# Altium footprint library Wifi.PcbLib: 1 footprints
Each footprint in its own frame and in the unit in brackets; x right, y up, seen from the top. Pads: shape width x height; smd on the part's side, far side on the other; paste and mask are expansions set on the pad; w line width, h text height; cw(c..) or ccw(c..) is an arc to the next point about the centre after c.
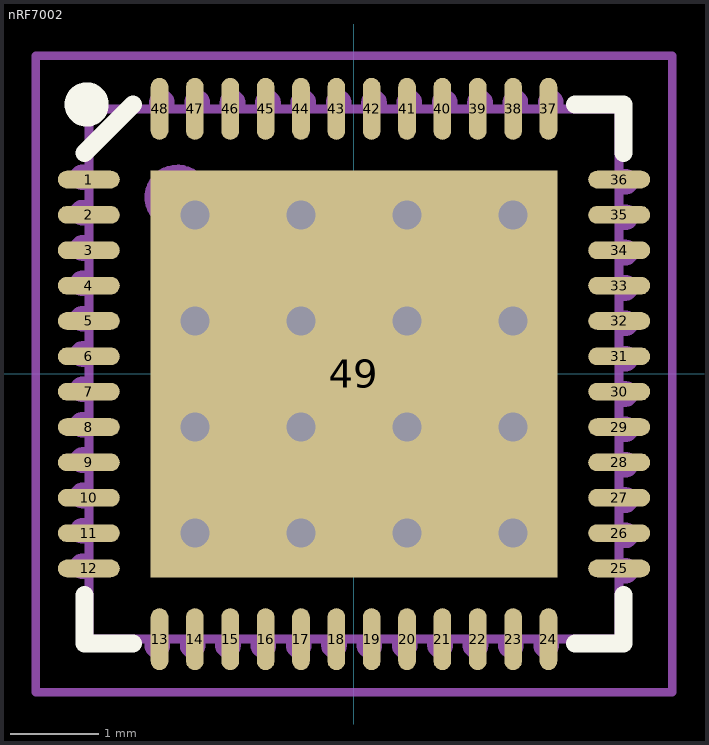
[diagram p0: the footprint, top view; thin cyan lines are the x and y axes]

## nRF7002 [mm] "QFN40P600X600X60-48N"
pads (49):
  oval 0.7x0.2 smd: 1(-3,2.2) 2(-3,1.8) 3(-3,1.4) 4(-3,1) 5(-3,0.6) 6(-3,0.2) 7(-3,-0.2) 8(-3,-0.6) 9(-3,-1) 10(-3,-1.4) 11(-3,-1.8) 12(-3,-2.2) 25(3,-2.2) 26(3,-1.8) 27(3,-1.4) 28(3,-1) 29(3,-0.6) 30(3,-0.2) 31(3,0.2) 32(3,0.6) 33(3,1) 34(3,1.4) 35(3,1.8) 36(3,2.2)
  oval 0.2x0.7 smd: 13(-2.2,-3) 14(-1.8,-3) 15(-1.4,-3) 16(-1,-3) 17(-0.6,-3) 18(-0.2,-3) 19(0.2,-3) 20(0.6,-3) 21(1,-3) 22(1.4,-3) 23(1.8,-3) 24(2.2,-3) 37(2.2,3) 38(1.8,3) 39(1.4,3) 40(1,3) 41(0.6,3) 42(0.2,3) 43(-0.2,3) 44(-0.6,3) 45(-1,3) 46(-1.4,3) 47(-1.8,3) 48(-2.2,3)
  rect 4.6x4.6 smd: 49(0,0)
via -1.8,1.8 diameter 0.66 hole 0.33
via -0.6,1.8 diameter 0.66 hole 0.33
via 0.6,1.8 diameter 0.66 hole 0.33
via 1.8,1.8 diameter 0.66 hole 0.33
via -1.8,0.6 diameter 0.66 hole 0.33
via -0.6,0.6 diameter 0.66 hole 0.33
via 0.6,0.6 diameter 0.66 hole 0.33
via 1.8,0.6 diameter 0.66 hole 0.33
via -1.8,-0.6 diameter 0.66 hole 0.33
via -0.6,-0.6 diameter 0.66 hole 0.33
via 0.6,-0.6 diameter 0.66 hole 0.33
via 1.8,-0.6 diameter 0.66 hole 0.33
via -1.8,-1.8 diameter 0.66 hole 0.33
via -0.6,-1.8 diameter 0.66 hole 0.33
via 0.6,-1.8 diameter 0.66 hole 0.33
via 1.8,-1.8 diameter 0.66 hole 0.33
Top Overlay:
  circle w0.25: c-3.025,3.05 r0.125
  lines w0.2: -3.05,-2.5 -3.05,-3.05 -2.5,-3.05 ; -3.05,2.5 -2.5,3.05 ; 2.5,-3.05 3.05,-3.05 3.05,-2.5 ; 2.5,3.05 3.05,3.05 3.05,2.5
Mechanical 7:
  circle w0.1: c-2,2 r0.32
  lines w0.1: -3,-2.269 -3.071,-2.269 cw(c-3.071,-2.174) -3.071,-2.079 -3,-2.079 ; -3,-1.869 -3.071,-1.869 cw(c-3.071,-1.774) -3.071,-1.679 -3,-1.679 ; -3,-1.469 -3.071,-1.469 cw(c-3.071,-1.374) -3.071,-1.279 -3,-1.279 ; -3,-1.069 -3.071,-1.069 cw(c-3.071,-0.974) -3.071,-0.879 -3,-0.879 ; -3,-0.669 -3.071,-0.669 cw(c-3.071,-0.574) -3.071,-0.479 -3,-0.479 ; -3,-0.269 -3.071,-0.269 cw(c-3.071,-0.174) -3.071,-0.079 -3,-0.079 ; -3,0.131 -3.071,0.131 cw(c-3.071,0.226) -3.071,0.321 -3,0.321 ; -3,0.531 -3.071,0.531 cw(c-3.071,0.626) -3.071,0.721 -3,0.721 ; -3,0.931 -3.071,0.931 cw(c-3.071,1.026) -3.071,1.121 -3,1.121 ; -3,1.331 -3.071,1.331 cw(c-3.071,1.426) -3.071,1.521 -3,1.521 ; -3,1.731 -3.071,1.731 cw(c-3.071,1.826) -3.071,1.921 -3,1.921 ; -3,2.131 -3.071,2.131 cw(c-3.071,2.226) -3.071,2.321 -3,2.321 ; -2.321,-3 -2.321,-3.071 ccw(c-2.226,-3.071) -2.131,-3.071 -2.131,-3 ; -2.269,3 -2.269,3.071 cw(c-2.174,3.071) -2.079,3.071 -2.079,3 ; -1.921,-3 -1.921,-3.071 ccw(c-1.826,-3.071) -1.731,-3.071 -1.731,-3 ; -1.869,3 -1.869,3.071 cw(c-1.774,3.071) -1.679,3.071 -1.679,3 ; -1.521,-3 -1.521,-3.071 ccw(c-1.426,-3.071) -1.331,-3.071 -1.331,-3 ; -1.469,3 -1.469,3.071 cw(c-1.374,3.071) -1.279,3.071 -1.279,3 ; -1.121,-3 -1.121,-3.071 ccw(c-1.026,-3.071) -0.931,-3.071 -0.931,-3 ; -1.069,3 -1.069,3.071 cw(c-0.974,3.071) -0.879,3.071 -0.879,3 ; -0.721,-3 -0.721,-3.071 ccw(c-0.626,-3.071) -0.531,-3.071 -0.531,-3 ; -0.669,3 -0.669,3.071 cw(c-0.574,3.071) -0.479,3.071 -0.479,3 ; -0.321,-3 -0.321,-3.071 ccw(c-0.226,-3.071) -0.131,-3.071 -0.131,-3 ; -0.269,3 -0.269,3.071 cw(c-0.174,3.071) -0.079,3.071 -0.079,3 ; 0.079,-3 0.079,-3.071 ccw(c0.174,-3.071) 0.269,-3.071 0.269,-3 ; 0.131,3 0.131,3.071 cw(c0.226,3.071) 0.321,3.071 0.321,3 ; 0.479,-3 0.479,-3.071 ccw(c0.574,-3.071) 0.669,-3.071 0.669,-3 ; 0.531,3 0.531,3.071 cw(c0.626,3.071) 0.721,3.071 0.721,3 ; 0.879,-3 0.879,-3.071 ccw(c0.974,-3.071) 1.069,-3.071 1.069,-3 ; 0.931,3 0.931,3.071 cw(c1.026,3.071) 1.121,3.071 1.121,3 ; 1.279,-3 1.279,-3.071 ccw(c1.374,-3.071) 1.469,-3.071 1.469,-3 ; 1.331,3 1.331,3.071 cw(c1.426,3.071) 1.521,3.071 1.521,3 ; 1.679,-3 1.679,-3.071 ccw(c1.774,-3.071) 1.869,-3.071 1.869,-3 ; 1.731,3 1.731,3.071 cw(c1.826,3.071) 1.921,3.071 1.921,3 ; 2.079,-3 2.079,-3.071 ccw(c2.174,-3.071) 2.269,-3.071 2.269,-3 ; 2.131,3 2.131,3.071 cw(c2.226,3.071) 2.321,3.071 2.321,3 ; 3,-2.321 3.071,-2.321 ccw(c3.071,-2.226) 3.071,-2.131 3,-2.131 ; 3,-1.921 3.071,-1.921 ccw(c3.071,-1.826) 3.071,-1.731 3,-1.731 ; 3,-1.521 3.071,-1.521 ccw(c3.071,-1.426) 3.071,-1.331 3,-1.331 ; 3,-1.121 3.071,-1.121 ccw(c3.071,-1.026) 3.071,-0.931 3,-0.931 ; 3,-0.721 3.071,-0.721 ccw(c3.071,-0.626) 3.071,-0.531 3,-0.531 ; 3,-0.321 3.071,-0.321 ccw(c3.071,-0.226) 3.071,-0.131 3,-0.131 ; 3,0.079 3.071,0.079 ccw(c3.071,0.174) 3.071,0.269 3,0.269 ; 3,0.479 3.071,0.479 ccw(c3.071,0.574) 3.071,0.669 3,0.669 ; 3,0.879 3.071,0.879 ccw(c3.071,0.974) 3.071,1.069 3,1.069 ; 3,1.279 3.071,1.279 ccw(c3.071,1.374) 3.071,1.469 3,1.469 ; 3,1.679 3.071,1.679 ccw(c3.071,1.774) 3.071,1.869 3,1.869 ; 3,2.079 3.071,2.079 ccw(c3.071,2.174) 3.071,2.269 3,2.269 ; -3,-3 -3,3 3,3 3,-3 -3,-3
  text ".Designator" at -0.35,-0.2 h0.38
Mechanical 15:
  lines w0.1: -0.5,0 0.5,0 ; 0,-0.5 0,0.5 ; -3.6,-3.6 -3.6,3.6 3.6,3.6 3.6,-3.6 -3.6,-3.6
3D body "User Library-QFN48.step": height 0.86, standoff -0.01, extent -3.02,-3.02 3.02,3.02